# Altium schematic symbol library ADP5070.SchLib: 1 symbol
Pins are listed as number, name and electrical type; pins without a type are passive.

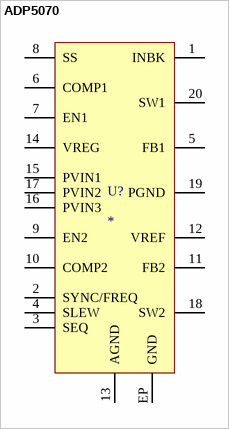
[diagram p0: symbol ADP5070]

## ADP5070
designator U?
pins: 1 INBK, 2 SYNC/FREQ, 3 SEQ, 4 SLEW, 5 FB1, 6 COMP1, 7 EN1, 8 SS, 9 EN2, 10 COMP2, 11 FB2, 12 VREF, 13 AGND, 14 VREG, 15 PVIN1, 16 PVIN3, 17 PVIN2, 18 SW2, 19 PGND, 20 SW1, EP GND